# EAGLE library part MAX4642 (library Traficon)
High-Speed, Low-Voltage, 4?, Dual SPST CMOS Analog Switches
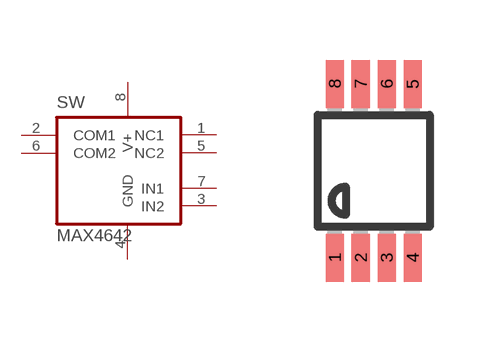
[diagram p105: symbol with the pads of UMAX8; footprint UMAX8]

Designator prefix SW

## MAX4642  [UMAX8]
1  NC1
2  COM1
3  IN2
4  GND
5  NC2
6  COM2
7  IN1
8  V+

## Footprint UMAX8 (pad centres in mm)
micro MAX Package
smd 0.45 x 1.2: 1 -0.975,-2.175; 2 -0.325,-2.175; 3 0.325,-2.175; 4 0.975,-2.175; 5 0.975,2.175; 6 0.325,2.175; 7 -0.325,2.175; 8 -0.975,2.175